# Altium schematic symbol library MOLEX-91228.SchLib: 1 symbol
Pins are listed as number, name and electrical type; pins without a type are passive.

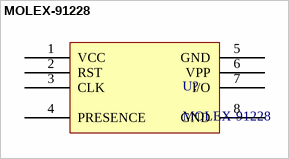
[diagram p0: symbol MOLEX-91228]

## MOLEX-91228
designator U?
SIM Card
pins: 1 VCC, 2 RST, 3 CLK, 4 PRESENCE, 5 GND, 6 VPP, 7 I/O, 8 GND